# Altium schematic symbol library SCH - MCU - ATTINY - MICROCHIP ATTINY402-SSFR SOIC8.SchLib: 1 symbol
Pins are listed as number, name and electrical type; pins without a type are passive.

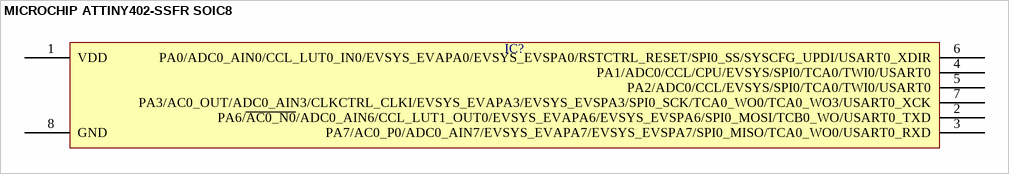
[diagram p0: symbol MICROCHIP ATTINY402-SSFR SOIC8]

## MICROCHIP ATTINY402-SSFR SOIC8
designator IC?  (value not drawn)
pins: 1 VDD, 2 PA6/~{AC0_N0}/ADC0_AIN6/CCL_LUT1_OUT0/EVSYS_EVAPA6/EVSYS_EVSPA6/SPI0_MOSI/TCB0_WO/USART0_TXD, 3 PA7/AC0_P0/ADC0_AIN7/EVSYS_EVAPA7/EVSYS_EVSPA7/SPI0_MISO/TCA0_WO0/USART0_RXD, 4 PA1/ADC0/CCL/CPU/EVSYS/SPI0/TCA0/TWI0/USART0, 5 PA2/ADC0/CCL/EVSYS/SPI0/TCA0/TWI0/USART0, 6 PA0/ADC0_AIN0/CCL_LUT0_IN0/EVSYS_EVAPA0/EVSYS_EVSPA0/RSTCTRL_RESET/SPI0_SS/SYSCFG_UPDI/USART0_XDIR, 7 PA3/AC0_OUT/ADC0_AIN3/CLKCTRL_CLKI/EVSYS_EVAPA3/EVSYS_EVSPA3/SPI0_SCK/TCA0_WO0/TCA0_WO3/USART0_XCK, 8 GND